# Altium footprint library MAX14595ETA&plus_.PcbLib: 3 footprints
Each footprint in its own frame and in the unit in brackets; x right, y up, seen from the top. Pads: shape width x height; smd on the part's side, far side on the other; paste and mask are expansions set on the pad; w line width, h text height; cw(c..) or ccw(c..) is an arc to the next point about the centre after c.
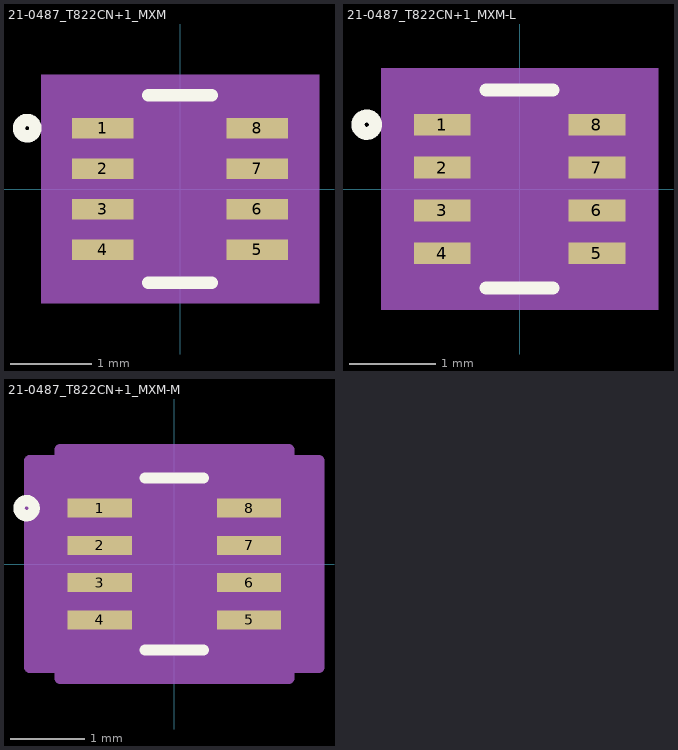
[diagram p0: the footprints below, top view; thin cyan lines are the x and y axes]

## 21-0487_T822CN+1_MXM [mil]
pads (8):
  rect 30x10 smd paste+0 mask+0: 1(-37.5,29.53) 2(-37.5,9.84) 3(-37.5,-9.84) 4(-37.5,-29.53) 5(37.5,-29.53) 6(37.5,-9.84) 7(37.5,9.84) 8(37.5,29.53)
Top Overlay:
  circle w6: c-74.19,29.53 r4
  lines w6: -15.34,-45.5 15.34,-45.5 ; -15.34,45.5 15.34,45.5
Mechanical 5:
  region: 67.5,-55.5 -67.5,-55.5 -67.5,55.5 67.5,55.5
Mechanical 13:
  circle w0: c-22.5,29.53 r3
  lines w1: -40.5,-40.5 -40.5,40.5 40.5,40.5 40.5,-40.5 -40.5,-40.5
Mechanical 15:
  region: -50.5,-44.53 -62.5,-44.53 -62.5,44.53 -50.5,44.53 -50.5,50.5 50.5,50.5 50.5,44.53 62.5,44.53 62.5,-44.53 50.5,-44.53 50.5,-50.5 -50.5,-50.5
  lines w6: -62.5,-44.53 -50.5,-44.53 -50.5,-50.5 50.5,-50.5 50.5,-44.53 62.5,-44.53 62.5,44.53 50.5,44.53 50.5,50.5 -50.5,50.5 -50.5,44.53 -62.5,44.53 -62.5,-44.53
3D body "21-0487_T822CN+1_MXM.step": height 32.09, standoff 0, extent -40.51,-40.51 40.51,40.51

## 21-0487_T822CN+1_MXM-L [mil]
pads (8):
  rect 26x10 smd paste+0 mask+0: 1(-35.5,29.53) 2(-35.5,9.84) 3(-35.5,-9.84) 4(-35.5,-29.53) 5(35.5,-29.53) 6(35.5,-9.84) 7(35.5,9.84) 8(35.5,29.53)
Top Overlay:
  circle w6: c-70.19,29.53 r4
  lines w6: -15.34,-45.5 15.34,-45.5 ; -15.34,45.5 15.34,45.5
Mechanical 5:
  region: 63.5,-55.5 -63.5,-55.5 -63.5,55.5 63.5,55.5
Mechanical 13:
  circle w0: c-22.5,29.53 r3
  lines w1: -40.5,-40.5 -40.5,40.5 40.5,40.5 40.5,-40.5 -40.5,-40.5
Mechanical 15:
  region: -44.5,-38.53 -52.5,-38.53 -52.5,38.53 -44.5,38.53 -44.5,44.5 44.5,44.5 44.5,38.53 52.5,38.53 52.5,-38.53 44.5,-38.53 44.5,-44.5 -44.5,-44.5
  lines w6: -52.5,-38.53 -44.5,-38.53 -44.5,-44.5 44.5,-44.5 44.5,-38.53 52.5,-38.53 52.5,38.53 44.5,38.53 44.5,44.5 -44.5,44.5 -44.5,38.53 -52.5,38.53 -52.5,-38.53
3D body "21-0487_T822CN+1_MXM.step": height 32.09, standoff 0, extent -40.51,-40.51 40.51,40.51

## 21-0487_T822CN+1_MXM-M [mil]
pads (8):
  rect 34x10 smd paste+0 mask+0: 1(-39.5,29.53) 2(-39.5,9.84) 3(-39.5,-9.84) 4(-39.5,-29.53) 5(39.5,-29.53) 6(39.5,-9.84) 7(39.5,9.84) 8(39.5,29.53)
Top Overlay:
  circle w6: c-78.19,29.53 r4
  lines w6: -15.34,-45.5 15.34,-45.5 ; -15.34,45.5 15.34,45.5
Mechanical 5:
  region: 71.5,-55.5 -71.5,-55.5 -71.5,55.5 71.5,55.5
Mechanical 13:
  circle w0: c-22.5,29.53 r3
  lines w1: -40.5,-40.5 40.5,-40.5 40.5,40.5 -40.5,40.5 -40.5,-40.5
Mechanical 15:
  region: -60.5,-54.53 -76.5,-54.53 -76.5,54.53 -60.5,54.53 -60.5,60.5 60.5,60.5 60.5,54.53 76.5,54.53 76.5,-54.53 60.5,-54.53 60.5,-60.5 -60.5,-60.5
  lines w6: -76.5,-54.53 -76.5,54.53 -60.5,54.53 -60.5,60.5 60.5,60.5 60.5,54.53 76.5,54.53 76.5,-54.53 60.5,-54.53 60.5,-60.5 -60.5,-60.5 -60.5,-54.53 -76.5,-54.53
3D body "21-0487_T822CN+1_MXM.step": height 32.09, standoff 0, extent -40.51,-40.51 40.51,40.51